# EAGLE library part RNETWORK (library nonolith)
4 Resistor Array 0603
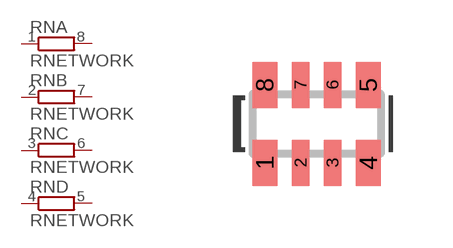
[diagram p19: symbol with the pads of RN8P-4R-CRA06S; footprint RN8P-4R-CRA06S]

Designator prefix RN; gates A=RESISTOR_B B=RESISTOR_B C=RESISTOR_B D=RESISTOR_B

## RNETWORK  [RN8P-4R-CRA06S]
1  A:1  pas
2  B:1  pas
3  C:1  pas
4  D:1  pas
5  D:2  pas
6  C:2  pas
7  B:2  pas
8  A:2  pas

## Footprint RN8P-4R-CRA06S (pad centres in mm)
smd 0.63 x 1.15: 1 -1.295,-0.975; 4 1.295,-0.975; 5 1.295,0.975; 8 -1.295,0.975
smd 0.44 x 1.15: 2 -0.4,-0.975; 3 0.4,-0.975; 6 0.4,0.975; 7 -0.4,0.975